# Altium schematic symbol library EC25.SchLib: 4 symbols
Pins are listed as number, name and electrical type; pins without a type are passive.

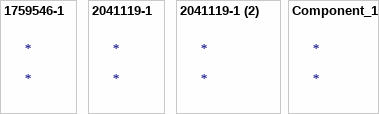
[diagram p0: symbols 1759546-1 to Component_1]

## 1759546-1
designator *
Card Edge Connector, 52 Contact(s), 2 Row(s), Right Angle, 0.031 inch Pitch, Solder Terminal, Locking, Black Insulator; Manufacturer: TE Connectivity; Manufacturer Part Number: 1759546-1; Manufacturer Series: 1759546; Number of Rows Loaded: 2; Board Mounting Option: PEG; Contact Style: BELLOWED TYPE; Dielectric Withstanding Voltage (AC): 300V; Durability: 50Cycles; Insulation Resistance: 500MR; Number Of Connectors: 1; PCB Contact Pattern: STAGGERED; Rated Current (Signal): 500mA; Contact Pattern: RECTANGULAR; Body Breadth: 0.39inch; Body Depth: 0.331inch; Body Length: 1.181inch; Reference Standard: UL; Reliability: COMMERCIAL; Supplier: Onlinecomponents.com; Supplier Part Number: 1759546-1; RoHS: Yes; Category: Card Edge Connectors; Stock: 4900; Pricing: 350=0.792, 700=0.779, 1050=0.759, 2800=0.735, 5250=0.72, 7700=0.7, 10150=0.697, 15050=0.693 (USD); Mounting Technology: Board; Contact Finish - Mating: AU ON NI; Insulation Color: Black; Insulation Material: Polymer; Contact Material: Bronze; Min Operating Temperature: -55°C; Max Operating Temperature: 85°C; Connector Type: CARD EDGE CONNECTOR; Mounting Style: RIGHT ANGLE; Termination: SMD/SMT; Number Of PCB Rows: 2; Mating Contact Pitch: 0.031inch; Mounting Option 1: LOCKING; Terminal Pitch: 0.7874mm; RoHS Compliant: Yes; Reach SVHC Compliant: Yes; ComponentLink1URL: https://datasheet.ciiva.com:443/pdfs/VipMasterIC/IC/TYEL/TYEL-S-A0008869674/TYEL-S-A0008819528-1.pdf?src-supplier=IHS+Markit; ComponentLink1Description: https://datasheet.ciiva.com:443/pdfs/VipMasterIC/IC/TYEL/TYEL-S-A0008869674/TYEL-S-A0008819528-1.pdf?src-supplier=IHS+Markit; ComponentLink2URL: https://www.te.com/commerce/DocumentDelivery/DDEController?Action=srchrtrv&DocNm=1759546&DocType=Customer+Drawing&DocLang=English&src-supplier=Digikey; ComponentLink2Description: https://www.te.com/commerce/DocumentDelivery/DDEController?Action=srchrtrv&DocNm=1759546&DocType=Customer+Drawing&DocLang=English&src-supplier=Digikey; ComponentLink3URL: https://www.te.com/commerce/DocumentDelivery/DDEController?Action=srchrtrv&amp;DocNm=1759546&amp;DocType=Customer+Drawing&amp;DocLang=English&src-supplier=Digikey; ComponentLink3Description: https://www.te.com/commerce/DocumentDelivery/DDEController?Action=srchrtrv&amp;DocNm=1759546&amp;DocType=Customer+Drawing&amp;DocLang=English&src-supplier=Digikey; ComponentLink4URL: http://www.te.com/commerce/DocumentDelivery/DDEController?Action=showdoc&DocId=Customer+Drawing1759546BtifEnglishENG_CD_1759546_B.tif&src-supplier=Avnet; ComponentLink4Description: http://www.te.com/commerce/DocumentDelivery/DDEController?Action=showdoc&DocId=Customer+Drawing1759546BtifEnglishENG_CD_1759546_B.tif&src-supplier=Avnet

## 2041119-1
designator *
Card Edge Connector, 52 Contact(s), 2 Row(s), Female, Right Angle, 0.031 inch Pitch, Surface Mount Terminal, Locking, Black Insulator, Receptacle; Manufacturer: TE Connectivity; Manufacturer Part Number: 2041119-1; Option: General Purpose; Filter Feature: No; Number of Rows Loaded: 2; Number of Contacts: 52; Supplier: Onlinecomponents.com; Supplier Part Number: 2041119-1; RoHS: Yes; Category: Card Edge Connectors; Stock: 9704; Pricing: 650=0.5336, 1300=0.5104, 2600=0.4827, 5200=0.4754, 7800=0.4579, 10400=0.451, 15600=0.4442, 25350=0.4376 (USD); Mounting Technology: Board; Contact Finish - Mating: NOT SPECIFIED; Connector Type: CARD EDGE CONNECTOR; Contact Gender: Female; Mixed Contacts: No; Mounting Style: RIGHT ANGLE; Termination: SMD/SMT; Terminal Pitch: 0.8mm; Flammability Rating: UL94 V-0; RoHS Compliant: Yes; DIN Conformance: No; IEC Conformance: No; MIL Conformance: No; Reach SVHC Compliant: Yes; ComponentLink1URL: https://datasheet.ciiva.com:443/pdfs/VipMasterIC/IC/TYEL/TYEL-S-A0008869674/TYEL-S-A0008860425-1.pdf?src-supplier=IHS+Markit; ComponentLink1Description: https://datasheet.ciiva.com:443/pdfs/VipMasterIC/IC/TYEL/TYEL-S-A0008869674/TYEL-S-A0008860425-1.pdf?src-supplier=IHS+Markit; ComponentLink2URL: https://datasheet.ciiva.com/10437/eng-ds-8-1773459-7-express-mini-card-qrg-1011-10437470.pdf?src-supplier=Avnet; ComponentLink2Description: https://datasheet.ciiva.com/10437/eng-ds-8-1773459-7-express-mini-card-qrg-1011-10437470.pdf?src-supplier=Avnet

## 2041119-1 (2)
designator *
Card Edge Connector, 52 Contact(s), 2 Row(s), Female, Right Angle, 0.031 inch Pitch, Surface Mount Terminal, Locking, Black Insulator, Receptacle; Manufacturer: TE Connectivity; Manufacturer Part Number: 2041119-1; Option: General Purpose; Filter Feature: No; Number of Rows Loaded: 2; Number of Contacts: 52; Supplier: Onlinecomponents.com; Supplier Part Number: 2041119-1; RoHS: Yes; Category: Card Edge Connectors; Stock: 9704; Pricing: 650=0.5336, 1300=0.5104, 2600=0.4827, 5200=0.4754, 7800=0.4579, 10400=0.451, 15600=0.4442, 25350=0.4376 (USD); Mounting Technology: Board; Contact Finish - Mating: NOT SPECIFIED; Connector Type: CARD EDGE CONNECTOR; Contact Gender: Female; Mixed Contacts: No; Mounting Style: RIGHT ANGLE; Termination: SMD/SMT; Terminal Pitch: 0.8mm; Flammability Rating: UL94 V-0; RoHS Compliant: Yes; DIN Conformance: No; IEC Conformance: No; MIL Conformance: No; Reach SVHC Compliant: Yes; ComponentLink1URL: https://datasheet.ciiva.com:443/pdfs/VipMasterIC/IC/TYEL/TYEL-S-A0008869674/TYEL-S-A0008860425-1.pdf?src-supplier=IHS+Markit; ComponentLink1Description: https://datasheet.ciiva.com:443/pdfs/VipMasterIC/IC/TYEL/TYEL-S-A0008869674/TYEL-S-A0008860425-1.pdf?src-supplier=IHS+Markit; ComponentLink2URL: https://datasheet.ciiva.com/10437/eng-ds-8-1773459-7-express-mini-card-qrg-1011-10437470.pdf?src-supplier=Avnet; ComponentLink2Description: https://datasheet.ciiva.com/10437/eng-ds-8-1773459-7-express-mini-card-qrg-1011-10437470.pdf?src-supplier=Avnet

## Component_1
designator *